# Altium footprint library RESISTOR_CSRN2512.PcbLib: 1 footprints
Each footprint in its own frame and in the unit in brackets; x right, y up, seen from the top. Pads: shape width x height; smd on the part's side, far side on the other; paste and mask are expansions set on the pad; w line width, h text height; cw(c..) or ccw(c..) is an arc to the next point about the centre after c.
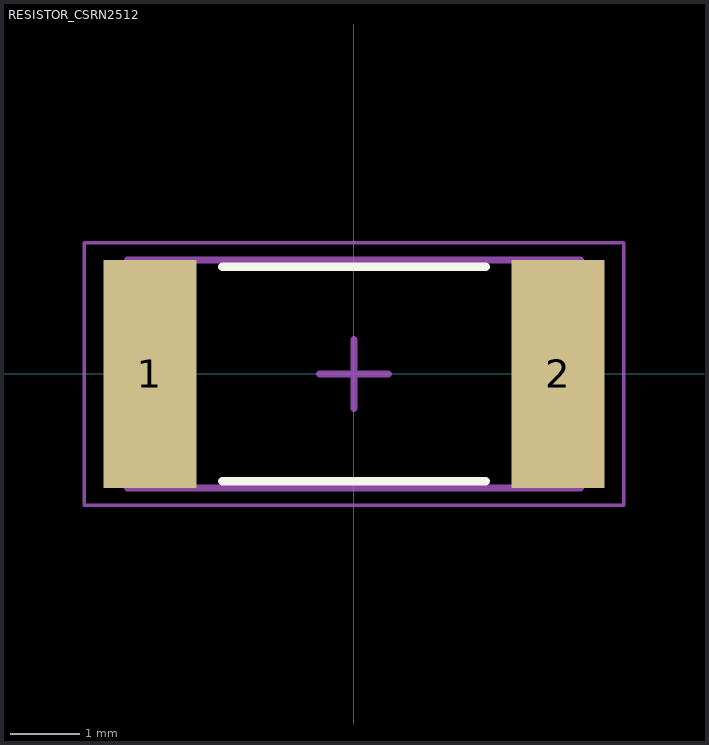
[diagram p0: the footprint, top view; thin cyan lines are the x and y axes]

## RESISTOR_CSRN2512 [mm] "Chip Resistor, 2-Leads, Body 6.35x3.15mm, IPC Medium Density"
height 0.7
pads (2):
  rect 1.35x3.3 smd: 1(-2.95,0) 2(2.95,0)
Top Overlay:
  lines w0.127: -1.9,-1.55 1.9,-1.55 ; -1.9,1.55 1.9,1.55
Mechanical 13:
  lines w0.1: -3.275,-1.65 3.275,-1.65 3.275,1.65 -3.275,1.65 -3.275,-1.65
Mechanical 15:
  lines w0.05: -3.9,-1.9 3.9,-1.9 3.9,1.9 -3.9,1.9 -3.9,-1.9
  lines w0.1: -0.5,0 0.5,0 ; 0,-0.5 0,0.5
3D body "RESISTOR_CSRN2512.step": height 0.7, standoff 0, extent -3.275,-1.65 3.275,1.65